# EAGLE library part MC34063 (library X893)
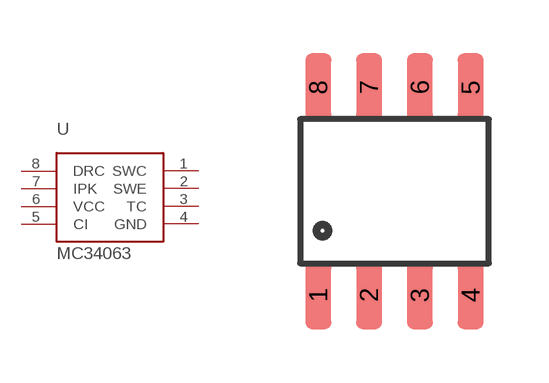
[diagram p130: symbol with the pads of SO08; footprint SO08]

Designator prefix -

## MC34063  [SO08]
1  SWC
2  SWE
3  TC
4  GND
5  CI
6  VCC
7  IPK
8  DRC

## Footprint SO08 (pad centres in mm)
Small Outline Package Fits JEDEC packages (narrow SOIC-8)
smd 0.65 x 1.7: 1 -1.905,-2.6; 2 -0.635,-2.6; 3 0.635,-2.6; 4 1.905,-2.6; 5 1.905,2.6; 6 0.635,2.6; 7 -0.635,2.6; 8 -1.905,2.6